# Altium schematic symbol library SMACONNECTOR18MM.SchLib: 1 symbol
Pins are listed as number, name and electrical type; pins without a type are passive.

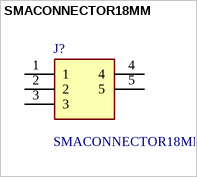
[diagram p0: symbol SMACONNECTOR18MM]

## SMACONNECTOR18MM
designator J?
RF Connectors / Coaxial Connectors Right Angled SMA Connector with extended 18mm neck; Manufacturer_Name: LPRS; Geometry.Height: 14.8mm; Mouser Part Number: 471-SMACONNECTOR18MM; Mouser Price/Stock: https://www.mouser.co.uk/ProductDetail/LPRS/SMACONNECTOR18MM?qs=Z%252BL2brAPG1Jyi4uHcEJFJw%3D%3D; Manufacturer_Part_Number: SMACONNECTOR18MM; Datasheet Link: *
footprint SMACONNECTOR18MM
pins: 1, 2, 3, 4, 5